# Altium integrated library Motorola Peripheral Clock Generator.IntLib: 4 symbols
Pins are listed as number, name and electrical type; pins without a type are passive.

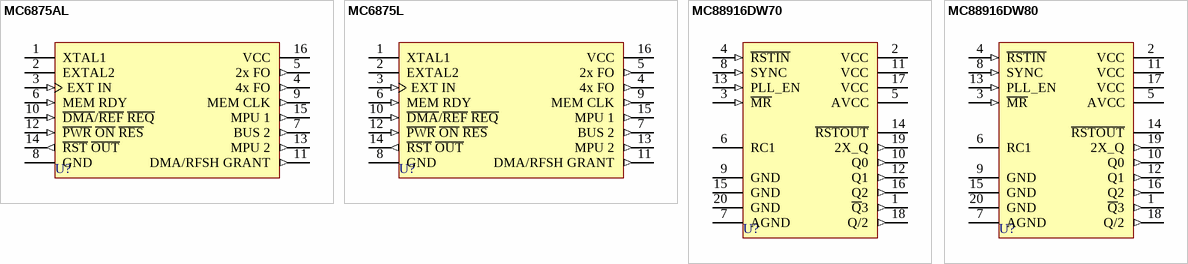
[diagram p0: symbols MC6875AL to MC88916DW80]

## MC6875AL
designator U?
Two-Phase Clock Generator; Published: 17-Jul-2002; LatestRevisionDate: 06-Jun-2005; LatestRevisionNote: Stylized 3D Model Added.; DatasheetVersion: 1984; PackageReference: 620-02; Publisher: Altium Limited; PackageDescription: DIP; 16 Leads; Row Spacing 7.62 mm; Pitch 2.54 mm
footprint 620-02 (DIP; 16 Leads; Row Spacing 7.62 mm; Pitch 2.54 mm)
3D model 620-02 (DIP; 16 Leads; Row Spacing 7.62 mm; Pitch 2.54 mm)
pins: 1 XTAL1, 2 EXTAL2, 3 EXT IN (in), 4 4x FO (out), 5 2x FO (out), 6 MEM RDY (in), 7 BUS 2 (out), 8 GND (power), 9 MEM CLK (out), 10 ~{DMA}/~{REF} ~{REQ} (in), 11 DMA/RFSH GRANT (out), 12 ~{PWR} ~{ON} ~{RES} (in), 13 MPU 2 (out), 14 ~{RST} ~{OUT} (out), 15 MPU 1 (out), 16 VCC (power)

## MC6875L
designator U?
Two-Phase Clock Generator; Published: 17-Jul-2002; LatestRevisionDate: 06-Jun-2005; LatestRevisionNote: Stylized 3D Model Added.; DatasheetVersion: 1984; PackageReference: 620-02; Publisher: Altium Limited; PackageDescription: DIP; 16 Leads; Row Spacing 7.62 mm; Pitch 2.54 mm
footprint 620-02 (DIP; 16 Leads; Row Spacing 7.62 mm; Pitch 2.54 mm)
3D model 620-02 (DIP; 16 Leads; Row Spacing 7.62 mm; Pitch 2.54 mm)
pins: 1 XTAL1, 2 EXTAL2, 3 EXT IN (in), 4 4x FO (out), 5 2x FO (out), 6 MEM RDY (in), 7 BUS 2 (out), 8 GND (power), 9 MEM CLK (out), 10 ~{DMA}/~{REF} ~{REQ} (in), 11 DMA/RFSH GRANT (out), 12 ~{PWR} ~{ON} ~{RES} (in), 13 MPU 2 (out), 14 ~{RST} ~{OUT} (out), 15 MPU 1 (out), 16 VCC (power)

## MC88916DW70
designator U?
Low-Skew CMOS PLL Clock Driver with Processor Reset; Published: 28-Feb-2003; LatestRevisionDate: 13-Apr-2006; LatestRevisionNote: IPC-7351 Footprint Added.; DatasheetVersion: 1995, Rev. 2; PackageReference: 751D-04; Publisher: Altium Limited; PackageDescription: 20-Pin Small Outline Integrated Circuit 1.27 mm Pitch
footprint 751D-04_N (SOIC, 20-Leads, Body 12.8x7.5mm, Pitch 1.27mm, IPC Medium Density)
footprint 751D-04_L (SOIC, 20-Leads, Body 12.8x7.5mm, Pitch 1.27mm, IPC High Density)
footprint 751D-04_M (SOIC, 20-Leads, Body 12.8x7.5mm, Pitch 1.27mm, IPC Low Density)
3D model 751D-04 (20-Pin Small Outline Integrated Circuit 1.27 mm Pitch)
pins: 1 ~{Q}3 (out), 2 VCC (power), 3 ~{MR} (in), 4 ~{RSTIN} (in), 5 AVCC (power), 6 RC1, 7 AGND (power), 8 SYNC (in), 9 GND (power), 10 Q0 (out), 11 VCC (power), 12 Q1 (out), 13 PLL_EN (in), 14 ~{RSTOUT} (oc), 15 GND (power), 16 Q2 (out), 17 VCC (power), 18 Q/2 (out), 19 2X_Q (out), 20 GND (power)

## MC88916DW80
designator U?
Low-Skew CMOS PLL Clock Driver with Processor Reset; Published: 28-Feb-2003; LatestRevisionDate: 13-Apr-2006; LatestRevisionNote: IPC-7351 Footprint Added.; DatasheetVersion: 1995, Rev. 2; PackageReference: 751D-04; Publisher: Altium Limited; PackageDescription: 20-Pin Small Outline Integrated Circuit 1.27 mm Pitch
footprint 751D-04_N (SOIC, 20-Leads, Body 12.8x7.5mm, Pitch 1.27mm, IPC Medium Density)
footprint 751D-04_L (SOIC, 20-Leads, Body 12.8x7.5mm, Pitch 1.27mm, IPC High Density)
footprint 751D-04_M (SOIC, 20-Leads, Body 12.8x7.5mm, Pitch 1.27mm, IPC Low Density)
3D model 751D-04 (20-Pin Small Outline Integrated Circuit 1.27 mm Pitch)
pins: 1 ~{Q}3 (out), 2 VCC (power), 3 ~{MR} (in), 4 ~{RSTIN} (in), 5 AVCC (power), 6 RC1, 7 AGND (power), 8 SYNC (in), 9 GND (power), 10 Q0 (out), 11 VCC (power), 12 Q1 (out), 13 PLL_EN (in), 14 ~{RSTOUT} (oc), 15 GND (power), 16 Q2 (out), 17 VCC (power), 18 Q/2 (out), 19 2X_Q (out), 20 GND (power)